# Altium footprint library SchottlyDiode_SMAJ58A_SMA.PcbLib: 1 footprints
Each footprint in its own frame and in the unit in brackets; x right, y up, seen from the top. Pads: shape width x height; smd on the part's side, far side on the other; paste and mask are expansions set on the pad; w line width, h text height; cw(c..) or ccw(c..) is an arc to the next point about the centre after c.
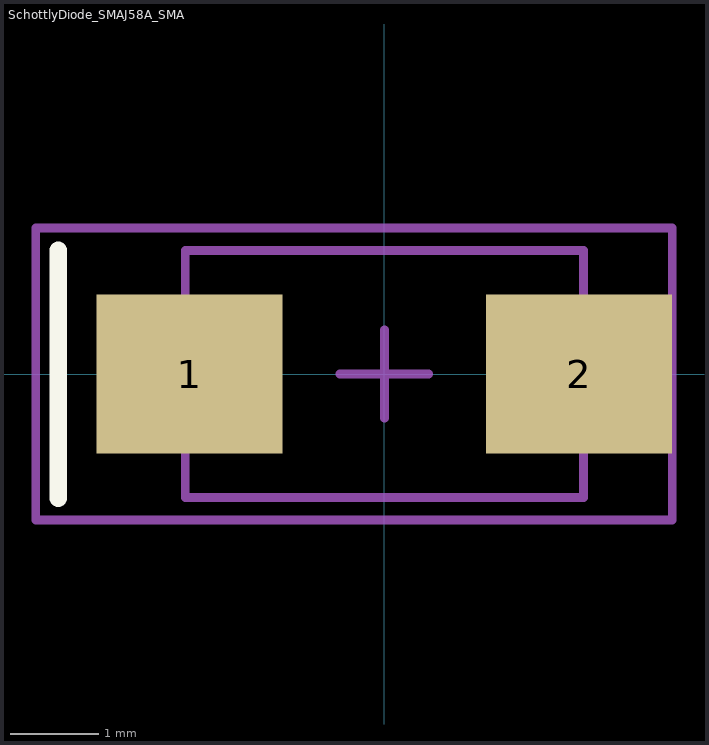
[diagram p0: the footprint, top view; thin cyan lines are the x and y axes]

## SchottlyDiode_SMAJ58A_SMA [mm]
height 2.29
pads (2):
  rect 2.1x1.8 smd: 1(-2.2,0) 2(2.2,0)
Top Overlay:
  lines w0.2: -3.683,-1.403 -3.683,1.397
Mechanical 13:
  lines w0.1: -2.25,-1.395 2.25,-1.395 2.25,1.395 -2.25,1.395 -2.25,-1.395
Mechanical 15:
  lines w0.1: -0.5,0 0.5,0 ; 0,-0.5 0,0.5 ; -3.937,-1.65 3.25,-1.65 3.25,1.65 -3.937,1.65 -3.937,-1.65
3D body: height 2.29, standoff 0.05, extent -2.25,-1.395 2.25,1.395